# Altium footprint library image_sensors.PcbLib: 2 footprints
Each footprint in its own frame and in the unit in brackets; x right, y up, seen from the top. Pads: shape width x height; smd on the part's side, far side on the other; paste and mask are expansions set on the pad; w line width, h text height; cw(c..) or ccw(c..) is an arc to the next point about the centre after c.
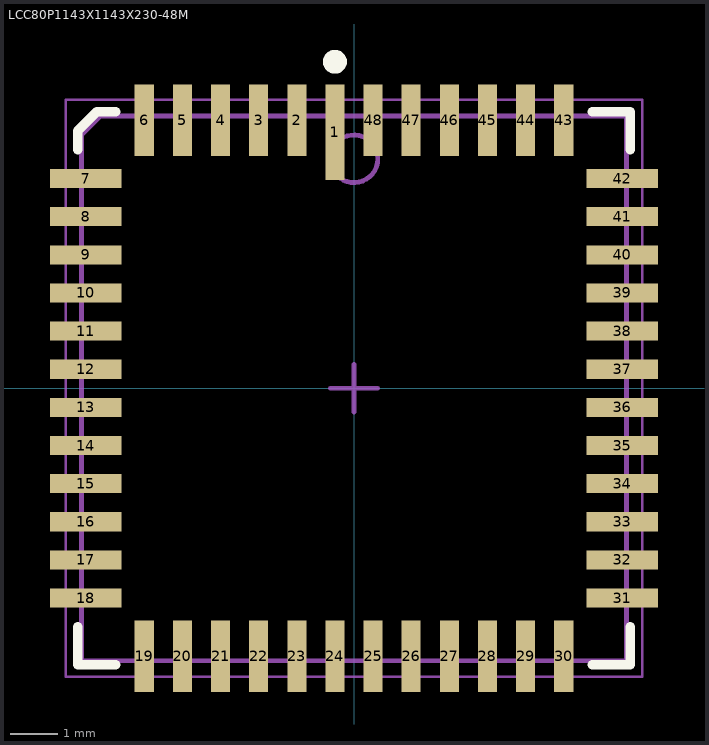
[diagram p0: the footprints below, top view; thin cyan lines are the x and y axes]

## CLCC48 [mm] "48-Pin CLCC Image Sensor"
height 2.3

## LCC80P1143X1143X230-48M [mm] "LCC, 48-Pins, Body 11,43x11,43mmx2,30mm, Pitch 0,80mm, IPC Low Density"
height 2.3
pads (48):
  rect 0.4x2 smd: 1(-0.4,5.375)
  rect 0.4x1.5 smd: 2(-1.2,5.625) 3(-2,5.625) 4(-2.8,5.625) 5(-3.6,5.625) 6(-4.4,5.625) 19(-4.4,-5.625) 20(-3.6,-5.625) 21(-2.8,-5.625) 22(-2,-5.625) 23(-1.2,-5.625) 24(-0.4,-5.625) 25(0.4,-5.625) 26(1.2,-5.625) 27(2,-5.625) 28(2.8,-5.625) 29(3.6,-5.625) 30(4.4,-5.625) 43(4.4,5.625) 44(3.6,5.625) 45(2.8,5.625) 46(2,5.625) 47(1.2,5.625) 48(0.4,5.625)
  rect 1.5x0.4 smd: 7(-5.625,4.4) 8(-5.625,3.6) 9(-5.625,2.8) 10(-5.625,2) 11(-5.625,1.2) 12(-5.625,0.4) 13(-5.625,-0.4) 14(-5.625,-1.2) 15(-5.625,-2) 16(-5.625,-2.8) 17(-5.625,-3.6) 18(-5.625,-4.4) 31(5.625,-4.4) 32(5.625,-3.6) 33(5.625,-2.8) 34(5.625,-2) 35(5.625,-1.2) 36(5.625,-0.4) 37(5.625,0.4) 38(5.625,1.2) 39(5.625,2) 40(5.625,2.8) 41(5.625,3.6) 42(5.625,4.4)
Top Overlay:
  circle w0.25: c-0.4,6.85 r0.125
  lines w0.2: -5.8,-5 -5.8,-5.8 -5,-5.8 ; -5.8,5 -5.8,5.4 -5.4,5.8 -5,5.8 ; 5,-5.8 5.8,-5.8 5.8,-5 ; 5,5.8 5.8,5.8 5.8,5
Mechanical 13:
  circle w0.1: c0,4.815 r0.5
  lines w0.1: -5.715,-5.715 -5.715,5.315 -5.315,5.715 5.715,5.715 5.715,-5.715 -5.715,-5.715
Mechanical 15:
  lines w0.05: -6.05,-6.05 -6.05,6.05 6.05,6.05 6.05,-6.05 -6.05,-6.05
  lines w0.1: -0.5,0 0.5,0 ; 0,-0.5 0,0.5
3D body: height 2.3, standoff 0, extent -5.715,-5.715 5.715,5.715